# Altium footprint library L 滤波器.PcbLib: 2 footprints
Each footprint in its own frame and in the unit in brackets; x right, y up, seen from the top. Pads: shape width x height; smd on the part's side, far side on the other; paste and mask are expansions set on the pad; w line width, h text height; cw(c..) or ccw(c..) is an arc to the next point about the centre after c.
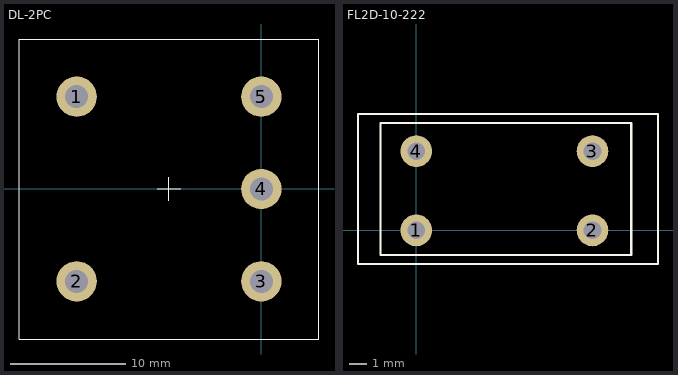
[diagram p0: the footprints below, top view; thin cyan lines are the x and y axes]

## DL-2PC [mm] "滤波器-常州监力 250VAC/2A/50Hz"
height 21
pads (5):
  round 3.5 hole 2: 1(-16,8) 2(-16,-8) 3(0,-8) 4(0,0) 5(0,8)
Top Overlay:
  lines w0.1: -9,0 -7,0 ; -8,-1 -8,1 ; -21,-13 -21,13 5,13 5,-13 -21,-13

## FL2D-10-222 [mm]
height 17
pads (4):
  round 1.8 hole 1: 1(0,0) 2(10,0) 3(10,4.5) 4(0,4.5)
Top Overlay:
  lines w0.127: -3.302,-1.905 13.698,-1.905 ; -3.302,-1.896 -3.302,6.604 ; -3.284,6.604 13.716,6.604 ; -2.032,5.461 -2.032,6.096 12.192,6.096 12.192,-1.397 -2.032,-1.397 -2.032,5.588 ; 13.716,-1.905 13.716,6.595